# EAGLE library part SI-46001-F (library work)
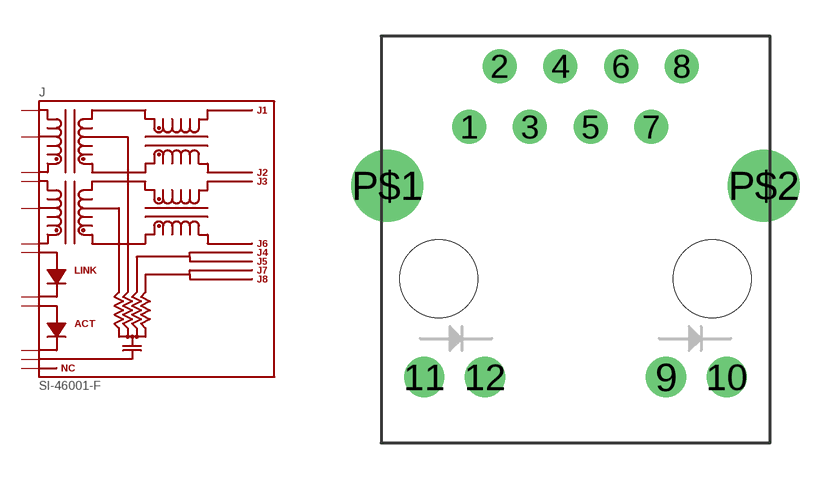
[diagram p47: symbol with the pads of SI-46001-F; footprint SI-46001-F]

Designator prefix J

## SI-46001-F  [SI-46001-F]
1  1
2  2
3  3
4  4
5  5
6  6
7  7
8  8
9  9
10  10
11  11
12  12

## Footprint SI-46001-F (pad centres in mm)
drill 0.89 pad 1.422: 1 -4.445,6.35; 2 -3.175,8.89; 3 -1.905,6.35; 4 -0.635,8.89; 5 0.635,6.35; 6 1.905,8.89; 7 3.175,6.35; 8 4.445,8.89
drill 1.02 pad 1.676: 9 3.785,-4.11; 10 6.325,-4.11; 11 -6.325,-4.11; 12 -3.785,-4.11
drill 1.75 pad 3: P$1 -7.875,3.89; P$2 7.875,3.89
hole 3.25 at 5.715,0
hole 3.25 at -5.715,0